# EAGLE library part DS3231 (library Neel)
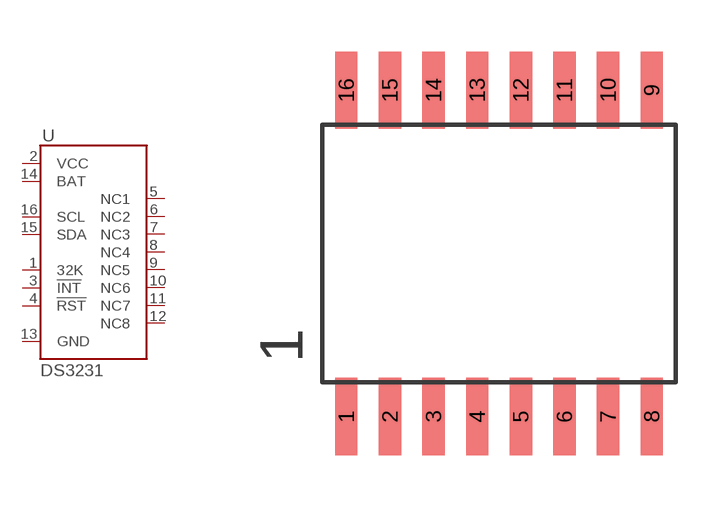
[diagram p82: symbol with the pads of SO-16; footprint SO-16]

Designator prefix -

## DS3231  [SO-16]
1  32K
2  VCC
3  !INT
4  !RST
5  NC1
6  NC2
7  NC3
8  NC4
9  NC5
10  NC6
11  NC7
12  NC8
13  GND
14  BAT
15  SDA
16  SCL

## Footprint SO-16 (pad centres in mm)
smd 0.65 x 2.25: 1 -4.445,-4.75; 2 -3.175,-4.75; 3 -1.905,-4.75; 4 -0.635,-4.75; 5 0.635,-4.75; 6 1.905,-4.75; 7 3.175,-4.75; 8 4.445,-4.75; 9 4.445,4.75; 10 3.175,4.75; 11 1.905,4.75; 12 0.635,4.75; 13 -0.635,4.75; 14 -1.905,4.75; 15 -3.175,4.75; 16 -4.445,4.75